# Altium schematic symbol library PI5C3251.SchLib: 1 symbol
Pins are listed as number, name and electrical type; pins without a type are passive.

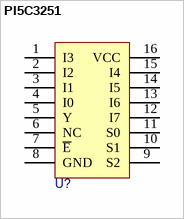
[diagram p0: symbol PI5C3251]

## PI5C3251
designator U?
pins: 1 I3, 2 I2, 3 I1, 4 I0, 5 Y, 6 NC, 7 ~{E}, 8 GND, 9 S2, 10 S1, 11 S0, 12 I7, 13 I6, 14 I5, 15 I4, 16 VCC